# Altium footprint library 封装库.PCBLIB: 282 footprints (part 8 of 18)
Each footprint in its own frame and in the unit in brackets; x right, y up, seen from the top. Pads: shape width x height; smd on the part's side, far side on the other; paste and mask are expansions set on the pad; w line width, h text height; cw(c..) or ccw(c..) is an arc to the next point about the centre after c.
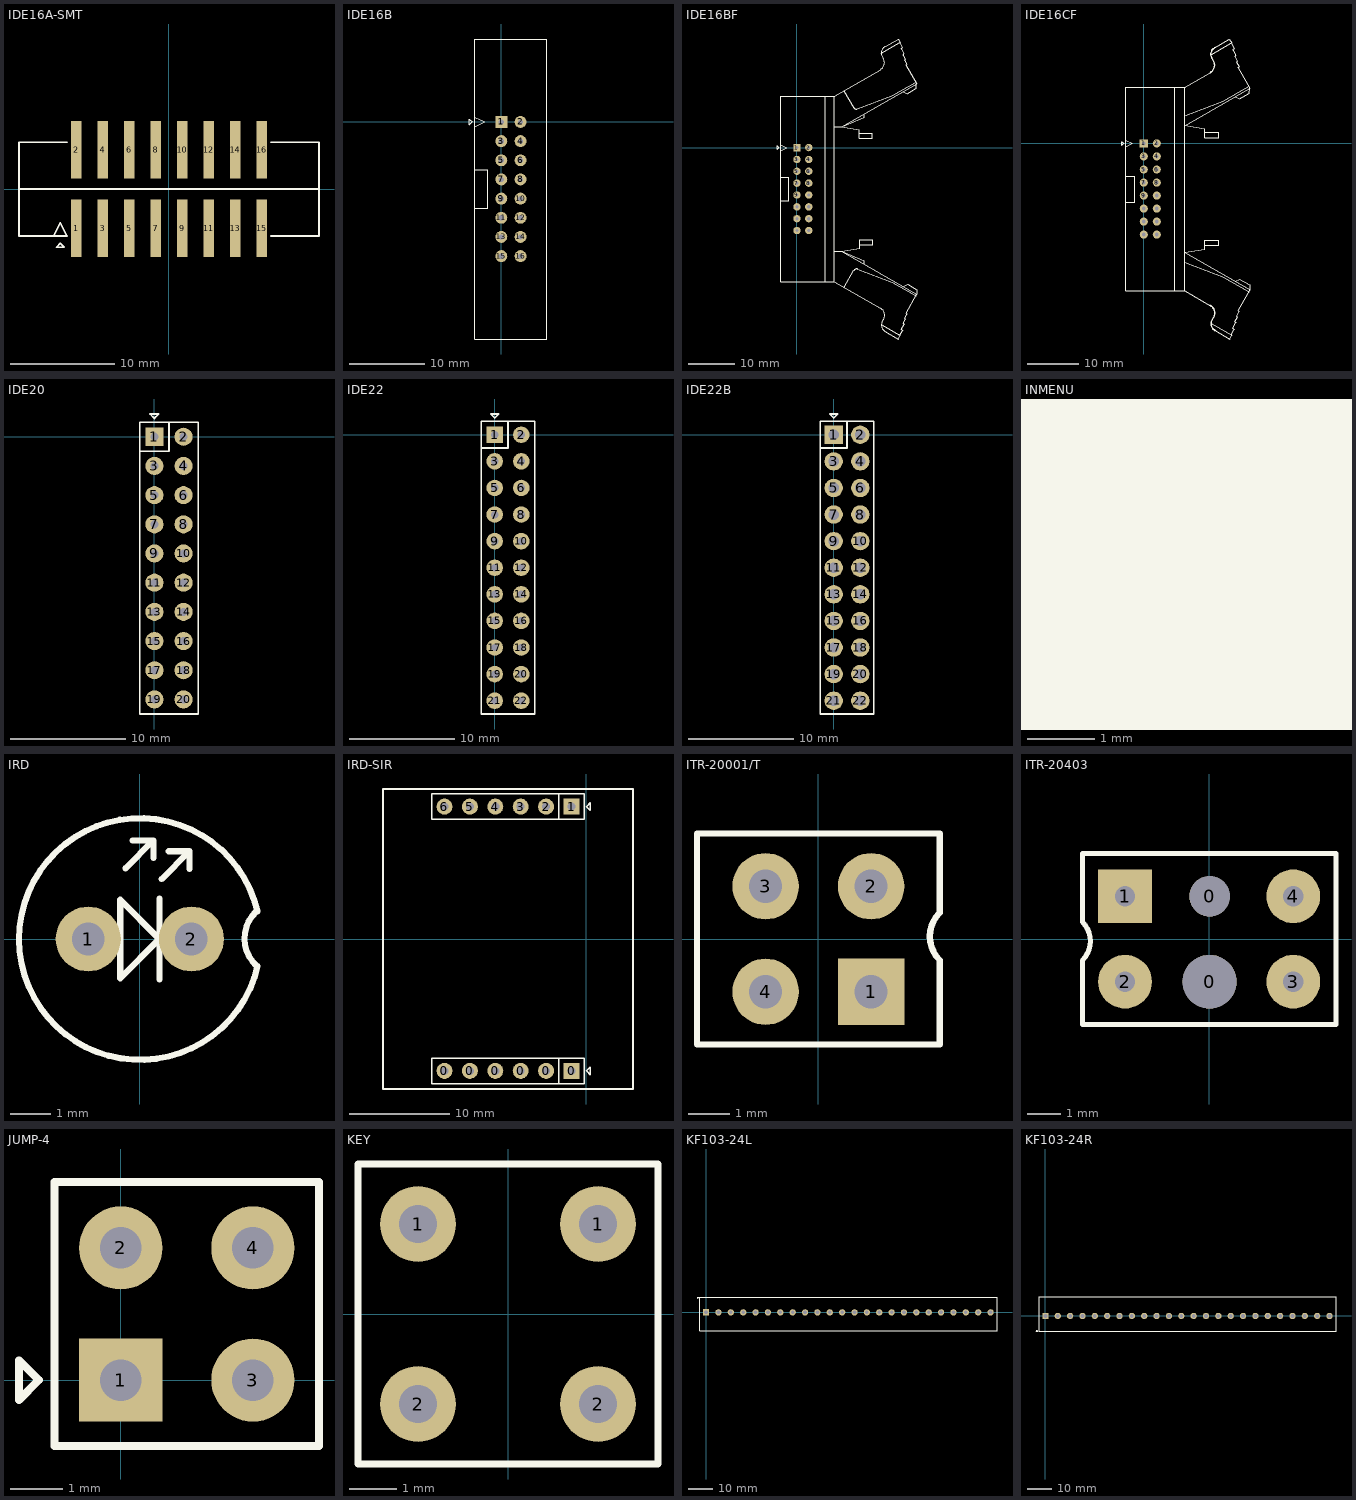
[diagram p7: the footprints below, top view; thin cyan lines are the x and y axes]

## IDE16A-SMT [mil] "box header,2.54mm,SMT"
pads (16):
  rect 40x218 smd: 1(-350,-148.5) 2(-350,148.5) 3(-250,-148.5) 4(-250,148.5) 5(-150,-148.5) 6(-150,148.5) 7(-50,-148.5) 8(-50,148.5) 9(50,-148.5) 10(50,148.5) 11(150,-148.5) 12(150,148.5) 13(250,-148.5) 14(250,148.5) 15(350,-148.5) 16(350,148.5)
TopOverlay:
  lines w6: -435,-177.3 -410,-127.3 -385,-177.3 -566.17,-177.3 -566.17,-0.13 ; -385,177.04 -566.17,177.04 -566.17,-0.13 ; -352,-0.13 566.54,-0.13 ; -339,-0.13 -566.17,-0.13 ; 385.37,-177.3 566.54,-177.3 566.54,177.04 385.37,177.04 ; -425,-219.5 -395,-219.5 -410,-204.5 -425,-219.5

## IDE16B [mil] "ejector header,2.54mm,DIP"
pads (16):
  rect 62x62 hole 28: 1(0,0)
  round 62 hole 28: 2(100,0) 3(0,-100) 4(100,-100) 5(0,-200) 6(100,-200) 7(0,-300) 8(100,-300) 9(0,-400) 10(100,-400) 11(0,-500) 12(100,-500) 13(0,-600) 14(100,-600) 15(0,-700) 16(100,-700)
TopOverlay:
  lines w6: -137.5,-612.5 -137.5,212.5 ; -137.5,-546 -137.5,-912 -137.5,-1132.5 237.5,-1132.5 237.5,-912 237.5,-592 ; -137.5,-450 -70.04,-450 -70.04,-250 -137.5,-250 ; -137.5,-25 -87.5,0 -137.5,25 ; -137.5,192.5 -137.5,433 237.5,433 237.5,192.5 ; 237.5,-612.5 237.5,212.5 ; -168,-15 -153,0 -168,15 -168,-15

## IDE16BF [mil] "ejector header,flex,2.54mm,DIP"
pads (16):
  rect 62x62 hole 28: 1(0,0)
  round 62 hole 28: 2(100,0) 3(0,-100) 4(100,-100) 5(0,-200) 6(100,-200) 7(0,-300) 8(100,-300) 9(0,-400) 10(100,-400) 11(0,-500) 12(100,-500) 13(0,-600) 14(100,-600) 15(0,-700) 16(100,-700)
TopOverlay:
  lines w6: -137.5,-612.5 -137.5,212.5 ; -137.5,-546 -137.5,-912 -137.5,-1132.5 316.14,-1132.5 ; -137.5,-450 -70.04,-450 -70.04,-250 -137.5,-250 ; -137.5,-25 -87.5,0 -137.5,25 ; -137.5,192.5 -137.5,433 317,433 ; 237.5,-1132.5 237.5,-592 ; 237.5,-612.5 237.5,433 ; 314.59,432.03 706.01,658.01 ; 316.14,-1132.36 316.14,-835.68 316.14,433 ; 316.14,-873.08 380.05,-873.08 ; 316.14,174.08 378.05,174.08 ; 316.69,-1131.78 708.11,-1357.76 ; 377.9,-874.17 529.47,-848.98 529.47,-779.68 637.74,-779.68 637.74,-820.63 530.65,-820.63 ; 396.42,479.27 479.49,335.39 ; 398.42,-1178.27 481.49,-1034.39 ; 510.06,325.76 801.83,436.93 1002.99,553.07 ; 512.06,-1024.76 803.83,-1135.93 1004.99,-1252.07 ; 528.65,121.63 635.74,121.63 635.74,80.69 527.47,80.69 527.47,149.98 ; 566.06,282.65 566.06,256.75 378.05,174.08 ; 568.06,-981.65 568.06,-955.75 380.05,-873.08 ; 712.97,794.78 864.5,882.71 870.98,886.46 853.85,916.12 739.29,849.98 ; 714.97,-1493.78 866.5,-1581.71 872.98,-1585.45 855.85,-1615.12 741.29,-1548.98 ; 719.29,767.3 730.22,748.36 ; 721.29,-1466.3 732.22,-1447.36 ; 865.57,882.43 889.79,840.49 878.19,833.8 902.21,792.2 901.35,788.97 893.16,784.25 914.82,746.74 906.97,742.22 928.63,704.71 918.74,699 1010.87,539.44 378.05,174.08 ; 867.57,-1581.43 891.79,-1539.49 880.19,-1532.8 904.21,-1491.2 903.35,-1487.97 895.16,-1483.25 916.82,-1445.74 908.97,-1441.22 930.63,-1403.71 920.74,-1398 1012.87,-1238.44 380.05,-873.08 ; 897.49,471.25 932.33,455 1007.68,498.5 1008.82,538.25 ; 899.49,-1170.25 934.33,-1154 1009.68,-1197.5 1010.82,-1237.25 ; 527.47,149.98 375.9,175.17 527.47,149.98 ; -168,-15 -168,15 -153,0 -168,-15
  lines w9.84: 477.88,340.05 ccw(c501.61,350.12) 510.06,325.76 ; 479.88,-1039.05 cw(c503.61,-1049.12) 512.06,-1024.76 ; 706.17,658.62 ccw(c673.32,715.51) 730.22,748.36 ; 708.17,-1357.62 cw(c675.32,-1414.51) 732.22,-1447.36 ; 719.16,767.33 cw(c772.43,798.08) 741.68,851.35 ; 721.16,-1466.33 ccw(c774.43,-1497.08) 743.68,-1550.35

## IDE16CF [mil] "ejector header,flex,2.54mm,DIP"
pads (16):
  rect 62x62 hole 28: 1(0,0)
  round 62 hole 28: 2(100,0) 3(0,-100) 4(100,-100) 5(0,-200) 6(100,-200) 7(0,-300) 8(100,-300) 9(0,-400) 10(100,-400) 11(0,-500) 12(100,-500) 13(0,-600) 14(100,-600) 15(0,-700) 16(100,-700)
TopOverlay:
  lines w6: -137.5,-612.5 -137.5,212.5 ; -137.5,-546 -137.5,-912 -137.5,-1132.5 316.14,-1132.5 316.14,433 ; -137.5,-450 -70.04,-450 -70.04,-250 -137.5,-250 ; -137.5,-25 -87.5,0 -137.5,25 ; -137.5,192.5 -137.5,433 317,433 ; 237.5,-1132.5 237.5,-592 ; 237.5,-612.5 237.5,433 ; 315.06,212.76 606.83,323.93 807.99,440.07 ; 315.07,431.88 511.01,545.01 ; 316.07,137.88 815.87,426.44 723.74,586 733.63,591.71 711.97,629.22 719.82,633.74 698.16,671.25 706.35,675.97 707.21,679.2 683.19,720.8 694.79,727.49 670.57,769.43 ; 316.28,-1132.27 512.41,-1245.5 ; 316.35,-912.5 608.13,-1023.67 809.29,-1139.81 ; 468.5,-783.14 575.59,-783.14 575.59,-742.19 467.32,-742.19 467.32,-811.49 315.75,-836.68 817.16,-1126.18 725.04,-1285.74 734.92,-1291.45 713.27,-1328.96 721.11,-1333.48 699.46,-1370.99 707.64,-1375.71 708.51,-1378.94 684.49,-1420.54 696.08,-1427.23 671.87,-1469.17 ; 468.65,85.63 575.74,85.63 575.74,44.69 467.47,44.69 467.47,113.98 ; 517.97,681.78 669.5,769.71 675.98,773.46 658.85,803.12 544.29,736.98 ; 519.27,-1381.52 670.8,-1469.45 677.27,-1473.19 660.15,-1502.86 545.59,-1436.72 ; 524.29,654.3 535.22,635.36 ; 525.59,-1354.04 536.52,-1335.1 ; 702.49,358.25 737.33,342 812.68,385.5 813.82,425.25 ; 703.78,-1057.99 738.62,-1041.73 813.98,-1085.24 815.12,-1124.99 ; 467.47,113.98 315.9,139.17 467.47,113.98 ; -168,-15 -153,0 -168,15 -168,-15
  lines w9.84: 511.17,545.62 ccw(c478.32,602.51) 535.22,635.36 ; 512.47,-1245.36 cw(c479.62,-1302.25) 536.52,-1335.1 ; 524.16,654.33 cw(c577.43,685.08) 546.68,738.35 ; 525.46,-1354.07 ccw(c578.73,-1384.82) 547.97,-1438.09

## IDE20 [mil] "PIN Header Dual Row,2.54mm"
pads (20):
  rect 62x62 hole 28: 1(0,0)
  round 62 hole 28: 2(100,0) 3(0,-100) 4(100,-100) 5(0,-200) 6(100,-200) 7(0,-300) 8(100,-300) 9(0,-400) 10(100,-400) 11(0,-500) 12(100,-500) 13(0,-600) 14(100,-600) 15(0,-700) 16(100,-700) 17(0,-800) 18(100,-800) 19(0,-900) 20(100,-900)
TopOverlay:
  lines w6: -50,-50 50,-50 50,50 ; 57,-950 150,-950 150,50 -50,50 -50,-950 100,-950 ; -15,78 0,63 15,78 -15,78

## IDE22 [mil] "PIN Header Dual Row,2.54mm,0.43mm"
pads (22):
  rect 62x62 hole 28: 1(0,0)
  round 62 hole 28: 2(100,0) 3(0,-100) 4(100,-100) 5(0,-200) 6(100,-200) 7(0,-300) 8(100,-300) 9(0,-400) 10(100,-400) 11(0,-500) 12(100,-500) 13(0,-600) 14(100,-600) 15(0,-700) 16(100,-700) 17(0,-800) 18(100,-800) 19(0,-900) 20(100,-900) 21(0,-1000) 22(100,-1000)
TopOverlay:
  lines w6: -50,-50 50,-50 50,50 ; -50,-1050 -50,50 150,50 150,-1050 -50,-1050 ; -15,78 0,63 15,78 -15,78

## IDE22B [mm] "PIN Header Dual Row,2.54mm,0.63mm"
pads (22):
  rect 1.75x1.75 hole 1: 1(0,0)
  round 1.75 hole 1: 2(2.54,0) 3(0,-2.54) 4(2.54,-2.54) 5(0,-5.08) 6(2.54,-5.08) 7(0,-7.62) 8(2.54,-7.62) 9(0,-10.16) 10(2.54,-10.16) 11(0,-12.7) 12(2.54,-12.7) 13(0,-15.24) 14(2.54,-15.24) 15(0,-17.78) 16(2.54,-17.78) 17(0,-20.32) 18(2.54,-20.32) 19(0,-22.86) 20(2.54,-22.86) 21(0,-25.4) 22(2.54,-25.4)
TopOverlay:
  lines w0.152: -1.27,-1.27 1.27,-1.27 1.27,1.27 ; -1.27,-26.67 3.81,-26.67 3.81,1.27 -1.27,1.27 -1.27,-26.67 ; -0.381,1.981 0.381,1.981 0,1.6 -0.381,1.981

## INMENU [mm]
TopOverlay:
  rectangle: -2.241,-2.204 2.204,2.038
  lines w0.254: -2.241,-2.204 1.848,1.886 ; -2.241,2.241 2.204,-2.204
  lines w1: -2.241,-2.204 2.204,-2.204 2.204,2.241 -2.241,2.241 -2.241,-2.204

## IRD [mm]
pads (2):
  round 1.6 hole 0.8: 1(-1.27,0) 2(1.27,0)
TopOverlay:
  lines w0.152: -0.351,1.739 0.335,2.425 0.335,1.993 ; -0.173,2.425 0.309,2.425 ; 0.483,-0.991 0.483,0 ; 0.483,0.991 0.483,0 ; 0.533,1.473 1.219,2.159 1.219,1.727 ; 0.711,2.159 1.194,2.159 ; 2.857,0.673 ccw(c3.492,0.013) 2.87,-0.66 ; 2.894,0.682 ccw(c0,0) 2.898,-0.667 ; 0.483,0 -0.483,-0.965 -0.483,-0.66 -0.483,0.737 -0.483,0.965 0.483,0

## IRD-SIR [mm] "IrDA speeds up to 115.2 kbit/s module"
pads (12):
  round 1.6 hole 0.8: 0(-14.175,-13.183) 0(-11.635,-13.183) 0(-9.095,-13.183) 0(-6.555,-13.183) 0(-4.015,-13.183) 2(-4.015,13.233) 3(-6.555,13.233) 4(-9.095,13.233) 5(-11.635,13.233) 6(-14.175,13.233)
  rect 1.6x1.6 hole 0.8: 0(-1.475,-13.183) 1(-1.475,13.233)
BottomLayer:
  lines w0.508: -14.406,13.003 -14.175,13.233
TopOverlay:
  lines w0.152: -2.745,-14.453 -2.745,-11.913 ; -2.745,11.963 -2.745,14.503 ; -20.325,-14.999 -20.325,14.999 4.675,14.999 4.675,-14.999 -20.325,-14.999 ; -15.445,-14.453 -15.445,-11.913 -0.205,-11.913 -0.205,-14.453 -15.445,-14.453 ; -15.445,11.963 -0.205,11.963 -0.205,14.503 -15.445,14.503 -15.445,11.963 ; 0.023,-13.183 0.404,-13.564 0.404,-12.802 0.023,-13.183 ; 0.023,13.233 0.404,12.852 0.404,13.614 0.023,13.233

## ITR-20001/T [mm]
pads (4):
  rect 1.6x1.6 hole 0.8: 1(1.27,-1.27)
  round 1.6 hole 0.8: 2(1.27,1.27) 3(-1.27,1.27) 4(-1.27,-1.27)
TopOverlay:
  lines w0.152: 2.438,-2.54 -2.921,-2.54 ; -2.921,-2.54 -2.921,2.54 2.921,2.54 2.921,0.635 ccw(c3.492,0.064) 2.921,-0.508 2.921,-2.54 -2.921,-2.54

## ITR-20403 [mm]
pads (6):
  round 1.6 hole 1.6: 0(0.013,-1.27)
  round 1.2 hole 1.2: 0(0.013,1.27)
  rect 1.6x1.6 hole 0.6: 1(-2.502,1.27)
  round 1.6 hole 0.6: 2(-2.502,-1.27) 3(2.502,-1.27) 4(2.502,1.27)
TopOverlay:
  lines w0.152: 0.851,-2.54 -3.772,-2.54 ; 3.746,-2.54 -3.772,-2.54 ; 3.772,-2.54 3.772,2.54 -3.772,2.54 -3.772,0.508 cw(c-4.343,-0.064) -3.772,-0.635 -3.772,-2.54

## JUMP-4 [mm]
pads (4):
  rect 1.6x1.6 / inner round 1.6 / far side rect 1.6x1.6 hole 0.8: 1(0,0)
  round 1.6 hole 0.8: 2(0,2.54) 3(2.54,0) 4(2.54,2.54)
TopOverlay:
  lines w0.152: -1.27,-0.584 -1.27,3.531 ; -1.27,-0.356 -1.27,-1.27 ; -1.27,3.2 -1.27,3.81 3.81,3.81 3.81,-1.27 ; -0.965,-1.27 1.575,-1.27 ; -0.66,-1.27 -1.27,-1.27 ; 3.81,3.175 3.81,-1.27 ; -1.27,-1.27 3.81,-1.27 ; -1.956,-0.381 -1.575,0 -1.956,0.381 -1.956,-0.381

## KEY [mm]
pads (4):
  round 1.6 hole 0.8: 1(-1.905,1.905) 1(1.905,1.905) 2(-1.905,-1.905) 2(1.905,-1.905)
TopOverlay:
  lines w0.152: 2.413,-3.175 3.175,-3.175 3.175,-2.667 ; 3.048,-3.175 -3.175,-3.175 -3.175,3.175 3.175,3.175 3.175,-3.048

## KF103-24L [mm] "5.00mm,KF-128V,KF-103,left"
pads (24):
  rect 2.54x2.54 hole 1.5: 1(0,0)
  round 2.54 hole 1.5: 2(5,0) 3(10,0) 4(15,0) 5(20,0) 6(25,0) 7(30,0) 8(35,0) 9(40,0) 10(45,0) 11(50,0) 12(55,0) 13(60,0) 14(65,0) 15(70,0) 16(75,0) 17(80,0) 18(85,0) 19(90,0) 20(95,0) 21(100,0) 22(105,0) 23(110,0) 24(115,0)
TopOverlay:
  lines w0.152: 7.489,-7.5 18.523,-7.5 ; 17.511,-7.5 27.511,-7.5 ; -3.68,6.172 -2.918,6.172 -3.299,5.791 -3.68,6.172 ; -2.518,-7.5 -2.518,6.187 27.511,6.187 57.54,6.187 87.569,6.187 117.598,6.187 117.598,-7.5 -2.518,-7.5

## KF103-24R [mm] "5.00mm,KF-128V,KF-103,right"
pads (24):
  rect 2.54x2.54 hole 1.5: 1(0,0)
  round 2.54 hole 1.5: 2(5,0) 3(10,0) 4(15,0) 5(20,0) 6(25,0) 7(30,0) 8(35,0) 9(40,0) 10(45,0) 11(50,0) 12(55,0) 13(60,0) 14(65,0) 15(70,0) 16(75,0) 17(80,0) 18(85,0) 19(90,0) 20(95,0) 21(100,0) 22(105,0) 23(110,0) 24(115,0)
TopOverlay:
  lines w0.152: -3.81,-6.198 -3.048,-6.198 -3.429,-5.817 -3.81,-6.198 ; -2.5,-6.2 -2.5,0 -2.5,7.8 117.617,7.8 117.617,-6.2 -2.5,-6.2